# Altium footprint library DO.PcbLib: 18 footprints (part 2 of 2)
Each footprint in its own frame and in the unit in brackets; x right, y up, seen from the top. Pads: shape width x height; smd on the part's side, far side on the other; paste and mask are expansions set on the pad; w line width, h text height; cw(c..) or ccw(c..) is an arc to the next point about the centre after c.
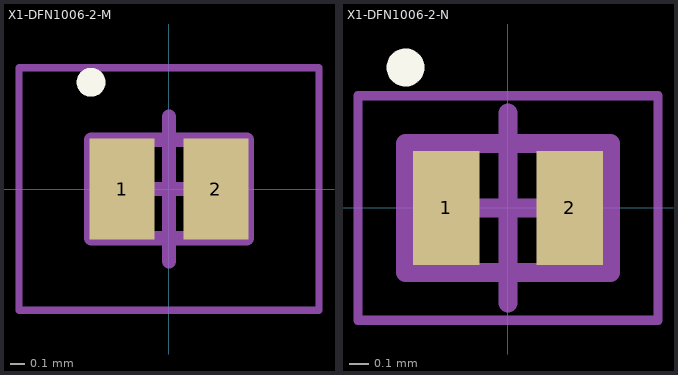
[diagram p1: the footprints below, top view; thin cyan lines are the x and y axes]

## X1-DFN1006-2-M [mm] "DFN, 2-Leads, Body 0.61x1.01mm, Pitch 0.65mm, IPC Low Density"
height 0.53
pads (2):
  rect 0.45x0.7 smd: 1(-0.325,0) 2(0.325,0)
Top Overlay:
  circle w0.1: c-0.54,0.74 r0.05
Mechanical 13:
  lines w0.1: -0.54,-0.34 0.54,-0.34 0.54,0.34 -0.54,0.34 -0.54,-0.34
Mechanical 15:
  lines w0.05: -1.04,-0.84 1.04,-0.84 1.04,0.84 -1.04,0.84 -1.04,-0.84
  lines w0.1: -0.5,0 0.5,0 ; 0,-0.5 0,0.5
3D body "DFN-2-M.step": height 0.53, standoff 0, extent -0.537,-0.337 0.537,0.337

## X1-DFN1006-2-N [mm] "DFN, 2-Leads, Body 0.61x1.01mm, Pitch 0.65mm, IPC Medium Density"
height 0.53
pads (2):
  rect 0.35x0.6 smd: 1(-0.325,0) 2(0.325,0)
Top Overlay:
  circle w0.1: c-0.54,0.74 r0.05
Mechanical 13:
  lines w0.1: -0.54,-0.34 -0.54,0.34 0.54,0.34 0.54,-0.34 -0.54,-0.34
Mechanical 15:
  lines w0.05: -0.79,-0.59 -0.79,0.59 0.79,0.59 0.79,-0.59 -0.79,-0.59
  lines w0.1: -0.5,0 0.5,0 ; 0,-0.5 0,0.5
3D body "DFN-2-N.step": height 0.53, standoff 0, extent -0.537,-0.337 0.537,0.337